# Altium footprint library Package_SON.PcbLib: 112 footprints (part 5 of 7)
Each footprint in its own frame and in the unit in brackets; x right, y up, seen from the top. Pads: shape width x height; smd on the part's side, far side on the other; paste and mask are expansions set on the pad; w line width, h text height; cw(c..) or ccw(c..) is an arc to the next point about the centre after c.
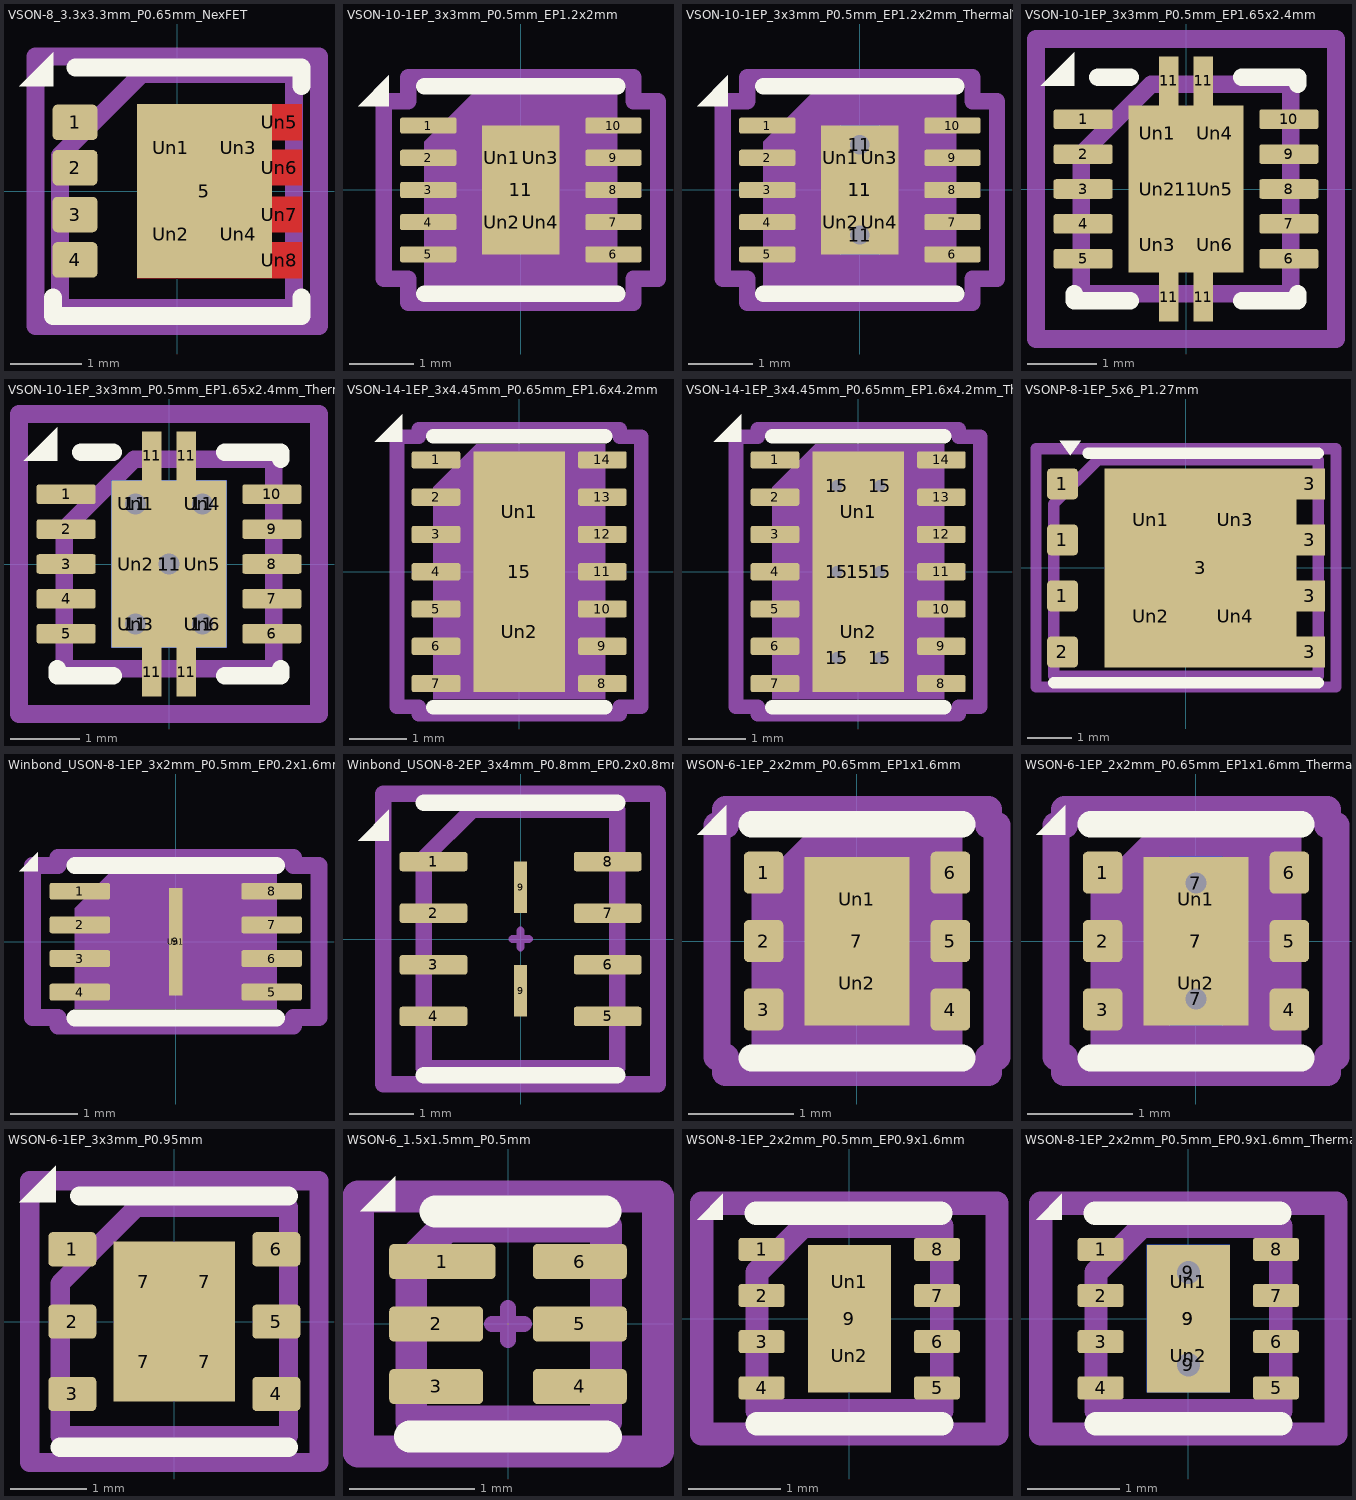
[diagram p4: the footprints below, top view; thin cyan lines are the x and y axes]

## VSON-8_3.3x3.3mm_P0.65mm_NexFET [mm] "VSON-8_3.3x3.3mm_P0.65mm_NexFET"
pads (13):
  rrect25% 0.63x0.5 smd: 1(-1.44,0.97) 2(-1.44,0.33) 3(-1.44,-0.33) 4(-1.44,-0.97)
  rect 1.9x2.45 smd: 5(0.385,0)
  rect 0.57x0.738 on Top Paste: Un1(-0.09,0.61) Un2(-0.09,-0.61) Un3(0.86,0.61) Un4(0.86,-0.61)
  rrect25% 0.63x0.5 on Top Paste: Un5(1.44,0.972) Un6(1.44,0.33) Un7(1.44,-0.33) Un8(1.44,-0.972)
F.Cu:
  region: 1.756,0.72 1.335,0.72 1.335,0.58 1.755,0.58 1.755,0.08 1.335,0.08 1.335,-0.08 1.755,-0.08 1.755,-0.58 1.335,-0.58 1.335,-0.72 1.755,-0.72 1.755,-1.225 -0.565,-1.225 -0.565,1.225 1.756,1.225
F.SilkS:
  region: -1.75,1.48 -2.23,1.48 -1.75,1.96
  lines w0.254: -1.75,-1.5 -1.75,-1.76 1.75,-1.76 1.75,-1.5 ; -1.43,1.74 1.75,1.74 1.75,1.48
F.Mask:
  region: 1.756,0.72 1.335,0.72 1.335,0.58 1.755,0.58 1.755,0.08 1.335,0.08 1.335,-0.08 1.755,-0.08 1.755,-0.58 1.335,-0.58 1.335,-0.72 1.755,-0.72 1.755,-1.225 -0.565,-1.225 -0.565,1.225 1.756,1.225
Top Component Center:
  lines w0.127: -0.127,0 0.127,0 ; 0,-0.127 0,0.127
Top Assembly:
  lines w0.254: -1.65,-1.65 1.65,-1.65 1.65,1.65 -0.5,1.65 -1.65,0.5 -1.65,-1.65
Top Courtyard:
  lines w0.254: -2,-1.9 2,-1.9 2,1.9 -2,1.9 -2,-1.9
Top Designator:
  text ".Designator" at -3.434,-0.345 h1.52
3D body "VSON-8_3.3x3.3mm_P0.65mm_NexFET.step": height 0.97, standoff 0, extent -1.65,-1.64 1.65,1.64

## VSON-10-1EP_3x3mm_P0.5mm_EP1.2x2mm [mm] "VSON-10-1EP_3x3mm_P0.5mm_EP1.2x2mm"
pads (15):
  rrect25% 0.875x0.25 smd: 1(-1.438,1) 2(-1.438,0.5) 3(-1.438,0) 4(-1.438,-0.5) 5(-1.438,-1) 6(1.438,-1) 7(1.438,-0.5) 8(1.438,0) 9(1.438,0.5) 10(1.438,1)
  rect 1.2x2 smd: 11(0,0)
  rrect25% 0.48x0.81 on Top Paste: Un1(-0.3,0.5) Un2(-0.3,-0.5) Un3(0.3,0.5) Un4(0.3,-0.5)
F.SilkS:
  region: -2.05,1.3 -2.53,1.3 -2.05,1.78
  lines w0.254: -1.5,-1.61 1.5,-1.61 ; -1.5,1.61 1.5,1.61
Top Component Center:
  lines w0.127: -0.127,0 0.127,0 ; 0,-0.127 0,0.127
Top Assembly:
  region: 1.5,-1.5 -1.5,-1.5 -1.5,0.75 -0.75,1.5 1.5,1.5
Top Courtyard:
  lines w0.254: -2.13,-1.38 -1.75,-1.38 -1.75,-1.75 1.75,-1.75 1.75,-1.38 2.13,-1.38 2.13,1.38 1.75,1.38 1.75,1.75 -1.75,1.75 -1.75,1.38 -2.13,1.38 -2.13,-1.38
Top Designator:
  text ".Designator" at -3.434,-0.345 h1.52
3D body "VSON-10-1EP_3x3mm_P0.5mm_EP1.2x2mm.step": height 1.02, standoff 0, extent -1.5,-1.49 1.5,1.49

## VSON-10-1EP_3x3mm_P0.5mm_EP1.2x2mm_ThermalVias [mm] "VSON-10-1EP_3x3mm_P0.5mm_EP1.2x2mm_ThermalVias"
pads (18):
  rrect25% 0.875x0.25 smd: 1(-1.438,1) 2(-1.438,0.5) 3(-1.438,0) 4(-1.438,-0.5) 5(-1.438,-1) 6(1.438,-1) 7(1.438,-0.5) 8(1.438,0) 9(1.438,0.5) 10(1.438,1)
  round 0.6 hole 0.3: 11(0,-0.7) 11(0,0.7)
  rect 1.2x2 smd: 11(0,0)
  rect 0.6x2 smd far side: 11(0,0)
  rrect25% 0.52x0.87 on Top Paste: Un1(-0.3,0.5) Un2(-0.3,-0.5) Un3(0.3,0.5) Un4(0.3,-0.5)
F.SilkS:
  region: -2.05,1.3 -2.53,1.3 -2.05,1.78
  lines w0.254: -1.5,-1.61 1.5,-1.61 ; -1.5,1.61 1.5,1.61
Top Component Center:
  lines w0.127: -0.127,0 0.127,0 ; 0,-0.127 0,0.127
Top Assembly:
  region: 1.5,-1.5 -1.5,-1.5 -1.5,0.75 -0.75,1.5 1.5,1.5
Top Courtyard:
  lines w0.254: -2.13,-1.38 -1.75,-1.38 -1.75,-1.75 1.75,-1.75 1.75,-1.38 2.13,-1.38 2.13,1.38 1.75,1.38 1.75,1.75 -1.75,1.75 -1.75,1.38 -2.13,1.38 -2.13,-1.38
Top Designator:
  text ".Designator" at -3.434,-0.345 h1.52
3D body "VSON-10-1EP_3x3mm_P0.5mm_EP1.2x2mm.step": height 1.02, standoff 0, extent -1.5,-1.49 1.5,1.49

## VSON-10-1EP_3x3mm_P0.5mm_EP1.65x2.4mm [mm] "VSON-10-1EP_3x3mm_P0.5mm_EP1.65x2.4mm"
pads (21):
  rrect25% 0.85x0.28 smd: 1(-1.475,1) 2(-1.475,0.5) 3(-1.475,0) 4(-1.475,-0.5) 5(-1.475,-1) 6(1.475,-1) 7(1.475,-0.5) 8(1.475,0) 9(1.475,0.5) 10(1.475,1)
  rect 0.28x0.7 smd: 11(-0.25,-1.55) 11(-0.25,1.55) 11(0.25,-1.55) 11(0.25,1.55)
  rect 1.65x2.4 smd: 11(0,0)
  rect 0.64x0.64 on Top Paste: Un1(-0.413,0.8) Un2(-0.413,0) Un3(-0.413,-0.8) Un4(0.413,0.8) Un5(0.413,0) Un6(0.413,-0.8)
F.SilkS:
  region: -1.6,1.48 -2.08,1.48 -1.6,1.96
  lines w0.254: -1.6,-1.5 -1.6,-1.6 -0.8,-1.6 ; -1.26,1.6 -0.8,1.6 ; 0.8,-1.6 1.6,-1.6 1.6,-1.5 ; 0.8,1.6 1.6,1.6 1.6,1.5
Top Component Center:
  lines w0.127: -0.127,0 0.127,0 ; 0,-0.127 0,0.127
Top Assembly:
  lines w0.254: -1.5,-1.5 1.5,-1.5 1.5,1.5 -0.5,1.5 -1.5,0.5 -1.5,-1.5
Top Courtyard:
  lines w0.254: -2.15,-2.15 2.15,-2.15 2.15,2.15 -2.15,2.15 -2.15,-2.15
Top Designator:
  text ".Designator" at -3.434,-0.345 h1.52
3D body "VSON-10-1EP_3x3mm_P0.5mm_EP1.65x2.4mm.step": height 0.92, standoff 0, extent -1.5,-1.5 1.5,1.5

## VSON-10-1EP_3x3mm_P0.5mm_EP1.65x2.4mm_ThermalVias [mm] "VSON-10-1EP_3x3mm_P0.5mm_EP1.65x2.4mm_ThermalVias"
pads (27):
  rrect25% 0.85x0.28 smd: 1(-1.475,1) 2(-1.475,0.5) 3(-1.475,0) 4(-1.475,-0.5) 5(-1.475,-1) 6(1.475,-1) 7(1.475,-0.5) 8(1.475,0) 9(1.475,0.5) 10(1.475,1)
  round 0.6 hole 0.3: 11(-0.48,-0.86) 11(-0.48,0.86) 11(0,0) 11(0.48,-0.86) 11(0.48,0.86)
  rect 0.28x0.7 smd: 11(-0.25,-1.55) 11(-0.25,1.55) 11(0.25,-1.55) 11(0.25,1.55)
  rect 1.65x2.4 smd: 11(0,0)
  rect 1.65x2.4 smd far side: 11(0,0)
  rect 0.64x0.64 on Top Paste: Un1(-0.48,0.86) Un2(-0.48,0) Un3(-0.48,-0.86) Un4(0.48,0.86) Un5(0.48,0) Un6(0.48,-0.86)
F.SilkS:
  region: -1.6,1.48 -2.08,1.48 -1.6,1.96
  lines w0.254: -1.6,-1.5 -1.6,-1.6 -0.8,-1.6 ; -1.26,1.6 -0.8,1.6 ; 0.8,-1.6 1.6,-1.6 1.6,-1.5 ; 0.8,1.6 1.6,1.6 1.6,1.5
Top Component Center:
  lines w0.127: -0.127,0 0.127,0 ; 0,-0.127 0,0.127
Top Assembly:
  lines w0.254: -1.5,-1.5 1.5,-1.5 1.5,1.5 -0.5,1.5 -1.5,0.5 -1.5,-1.5
Top Courtyard:
  lines w0.254: -2.15,-2.15 2.15,-2.15 2.15,2.15 -2.15,2.15 -2.15,-2.15
Top Designator:
  text ".Designator" at -3.434,-0.345 h1.52
3D body "VSON-10-1EP_3x3mm_P0.5mm_EP1.65x2.4mm.step": height 0.92, standoff 0, extent -1.5,-1.5 1.5,1.5

## VSON-14-1EP_3x4.45mm_P0.65mm_EP1.6x4.2mm [mm] "VSON-14-1EP_3x4.45mm_P0.65mm_EP1.6x4.2mm"
pads (17):
  rrect25% 0.85x0.3 smd: 1(-1.45,1.95) 2(-1.45,1.3) 3(-1.45,0.65) 4(-1.45,0) 5(-1.45,-0.65) 6(-1.45,-1.3) 7(-1.45,-1.95) 8(1.45,-1.95) 9(1.45,-1.3) 10(1.45,-0.65) 11(1.45,0) 12(1.45,0.65) 13(1.45,1.3) 14(1.45,1.95)
  rect 1.6x4.2 smd: 15(0,0)
  rrect19% 1.29x1.69 on Top Paste: Un1(0,1.05) Un2(0,-1.05)
F.SilkS:
  region: -2.04,2.27 -2.52,2.27 -2.04,2.75
  lines w0.254: -1.5,-2.36 1.5,-2.36 ; -1.5,2.36 1.5,2.36
Top Component Center:
  lines w0.127: -0.127,0 0.127,0 ; 0,-0.127 0,0.127
Top Assembly:
  region: 1.5,-2.225 -1.5,-2.225 -1.5,1.475 -0.75,2.225 1.5,2.225
Top Courtyard:
  lines w0.254: -2.13,-2.35 -1.75,-2.35 -1.75,-2.48 1.75,-2.48 1.75,-2.35 2.13,-2.35 2.13,2.35 1.75,2.35 1.75,2.48 -1.75,2.48 -1.75,2.35 -2.13,2.35 -2.13,-2.35
Top Designator:
  text ".Designator" at -3.434,-0.345 h1.52

## VSON-14-1EP_3x4.45mm_P0.65mm_EP1.6x4.2mm_ThermalVias [mm] "VSON-14-1EP_3x4.45mm_P0.65mm_EP1.6x4.2mm_ThermalVias"
pads (24):
  rrect25% 0.85x0.3 smd: 1(-1.45,1.95) 2(-1.45,1.3) 3(-1.45,0.65) 4(-1.45,0) 5(-1.45,-0.65) 6(-1.45,-1.3) 7(-1.45,-1.95) 8(1.45,-1.95) 9(1.45,-1.3) 10(1.45,-0.65) 11(1.45,0) 12(1.45,0.65) 13(1.45,1.3) 14(1.45,1.95)
  round 0.5 hole 0.2: 15(-0.375,-1.5) 15(-0.375,0) 15(-0.375,1.5) 15(0.375,-1.5) 15(0.375,0) 15(0.375,1.5)
  rect 1.6x4.2 smd: 15(0,0)
  rect 1.25x3.5 smd far side: 15(0,0)
  rrect19% 1.29x1.69 on Top Paste: Un1(0,1.05) Un2(0,-1.05)
F.SilkS:
  region: -2.04,2.27 -2.52,2.27 -2.04,2.75
  lines w0.254: -1.5,-2.36 1.5,-2.36 ; -1.5,2.36 1.5,2.36
Top Component Center:
  lines w0.127: -0.127,0 0.127,0 ; 0,-0.127 0,0.127
Top Assembly:
  region: 1.5,-2.225 -1.5,-2.225 -1.5,1.475 -0.75,2.225 1.5,2.225
Top Courtyard:
  lines w0.254: -2.13,-2.35 -1.75,-2.35 -1.75,-2.48 1.75,-2.48 1.75,-2.35 2.13,-2.35 2.13,2.35 1.75,2.35 1.75,2.48 -1.75,2.48 -1.75,2.35 -2.13,2.35 -2.13,-2.35
Top Designator:
  text ".Designator" at -3.434,-0.345 h1.52

## VSONP-8-1EP_5x6_P1.27mm [mm] "VSONP-8-1EP_5x6_P1.27mm"
pads (13):
  rrect25% 0.7x0.7 smd: 1(-2.8,-0.635) 1(-2.8,0.635) 1(-2.8,1.905) 2(-2.8,-1.905)
  rect 4.35x4.51 smd: 3(0.33,0)
  rect 0.7x0.7 smd: 3(2.8,-1.905) 3(2.8,-0.635) 3(2.8,0.635) 3(2.8,1.905)
  rect 1.235x1.57 on Top Paste: Un1(-0.797,1.095) Un2(-0.797,-1.095)
  rect 1.585x1.57 on Top Paste: Un3(1.112,1.095) Un4(1.112,-1.095)
F.SilkS:
  region: -2.624,2.549 -2.864,2.879 -2.384,2.879
  lines w0.254: -3,-2.6 3,-2.6 ; -2.22,2.6 3,2.6
Top Component Center:
  lines w0.127: -0.127,0 0.127,0 ; 0,-0.127 0,0.127
Top Assembly:
  lines w0.254: -3,-2.45 3,-2.45 3,2.45 -2,2.45 -3,1.45 -3,-2.45
Top Courtyard:
  lines w0.254: -3.4,-2.7 3.4,-2.7 3.4,2.7 -3.4,2.7 -3.4,-2.7
Top Designator:
  text ".Designator" at -3.434,-0.345 h1.52

## Winbond_USON-8-1EP_3x2mm_P0.5mm_EP0.2x1.6mm [mm] "Winbond_USON-8-1EP_3x2mm_P0.5mm_EP0.2x1.6mm"
pads (10):
  rrect25% 0.9x0.25 smd: 1(-1.425,0.75) 2(-1.425,0.25) 3(-1.425,-0.25) 4(-1.425,-0.75) 5(1.425,-0.75) 6(1.425,-0.25) 7(1.425,0.25) 8(1.425,0.75)
  rect 0.2x1.6 smd: 9(0,0)
  rrect25% 0.16x1.29 on Top Paste: Un1(0,0)
F.SilkS:
  region: -2.05,1.05 -2.33,1.05 -2.05,1.33
  lines w0.254: -1.5,-1.135 1.5,-1.135 ; -1.5,1.135 1.5,1.135
Top Component Center:
  lines w0.127: -0.127,0 0.127,0 ; 0,-0.127 0,0.127
Top Assembly:
  region: 1.5,-1 -1.5,-1 -1.5,0.5 -1,1 1.5,1
Top Courtyard:
  lines w0.254: -2.13,-1.13 -1.75,-1.13 -1.75,-1.25 1.75,-1.25 1.75,-1.13 2.13,-1.13 2.13,1.13 1.75,1.13 1.75,1.25 -1.75,1.25 -1.75,1.13 -2.13,1.13 -2.13,-1.13
Top Designator:
  text ".Designator" at -3.434,-0.345 h1.52
3D body "Winbond_USON-8-1EP_3x2mm_P0.5mm_EP0.2x1.6mm.step": height 0.55, standoff 0, extent -1.5,-0.99 1.5,0.99

## Winbond_USON-8-2EP_3x4mm_P0.8mm_EP0.2x0.8mm [mm] "Winbond_USON-8-2EP_3x4mm_P0.8mm_EP0.2x0.8mm"
pads (10):
  rrect25% 1.05x0.3 smd: 1(-1.35,1.2) 2(-1.35,0.4) 3(-1.35,-0.4) 4(-1.35,-1.2) 5(1.35,-1.2) 6(1.35,-0.4) 7(1.35,0.4) 8(1.35,1.2)
  rrect2% 0.2x0.8 smd: 9(0,-0.8) 9(0,0.8)
F.SilkS:
  region: -2.04,1.52 -2.52,1.52 -2.04,2
  lines w0.254: -1.5,-2.11 1.5,-2.11 ; -1.5,2.11 1.5,2.11
Top Component Center:
  lines w0.127: -0.127,0 0.127,0 ; 0,-0.127 0,0.127
Top Assembly:
  lines w0.254: -1.5,-2 1.5,-2 1.5,2 -0.75,2 -1.5,1.25 -1.5,-2
Top Courtyard:
  lines w0.254: -2.13,-2.25 2.13,-2.25 2.13,2.25 -2.13,2.25 -2.13,-2.25
Top Designator:
  text ".Designator" at -3.434,-0.345 h1.52

## WSON-6-1EP_2x2mm_P0.65mm_EP1x1.6mm [mm] "WSON-6-1EP_2x2mm_P0.65mm_EP1x1.6mm"
pads (9):
  rrect25% 0.375x0.4 smd: 1(-0.887,0.65) 2(-0.887,0) 3(-0.887,-0.65) 4(0.887,-0.65) 5(0.887,0) 6(0.887,0.65)
  rect 1x1.6 smd: 7(0,0)
  rrect25% 0.81x0.64 on Top Paste: Un1(0,0.4) Un2(0,-0.4)
F.SilkS:
  region: -1.24,1.01 -1.52,1.01 -1.24,1.29
  lines w0.254: -1,-1.11 1,-1.11 ; -1,1.11 1,1.11
Top Component Center:
  lines w0.127: -0.127,0 0.127,0 ; 0,-0.127 0,0.127
Top Assembly:
  region: 1,-1 -1,-1 -1,0.5 -0.5,1 1,1
Top Courtyard:
  lines w0.254: -1.33,-1.1 -1.25,-1.1 -1.25,-1.25 1.25,-1.25 1.25,-1.1 1.33,-1.1 1.33,1.1 1.25,1.1 1.25,1.25 -1.25,1.25 -1.25,1.1 -1.33,1.1 -1.33,-1.1
Top Designator:
  text ".Designator" at -2.252,-0.226 h1
3D body "WSON-6-1EP_2x2mm_P0.65mm_EP1x1.6mm.step": height 0.82, standoff 0, extent -1,-0.99 1,0.99

## WSON-6-1EP_2x2mm_P0.65mm_EP1x1.6mm_ThermalVias [mm] "WSON-6-1EP_2x2mm_P0.65mm_EP1x1.6mm_ThermalVias"
pads (12):
  rrect25% 0.375x0.4 smd: 1(-0.887,0.65) 2(-0.887,0) 3(-0.887,-0.65) 4(0.887,-0.65) 5(0.887,0) 6(0.887,0.65)
  round 0.5 hole 0.2: 7(0,-0.55) 7(0,0.55)
  rect 1x1.6 smd: 7(0,0)
  rect 0.5x1.6 smd far side: 7(0,0)
  rrect25% 0.87x0.69 on Top Paste: Un1(0,0.4) Un2(0,-0.4)
F.SilkS:
  region: -1.24,1.01 -1.52,1.01 -1.24,1.29
  lines w0.254: -1,-1.11 1,-1.11 ; -1,1.11 1,1.11
Top Component Center:
  lines w0.127: -0.127,0 0.127,0 ; 0,-0.127 0,0.127
Top Assembly:
  region: 1,-1 -1,-1 -1,0.5 -0.5,1 1,1
Top Courtyard:
  lines w0.254: -1.33,-1.1 -1.33,1.1 -1.25,1.1 -1.25,1.25 1.25,1.25 1.25,1.1 1.33,1.1 1.33,-1.1 1.25,-1.1 1.25,-1.25 -1.25,-1.25 -1.25,-1.1 -1.33,-1.1
Top Designator:
  text ".Designator" at -2.252,-0.226 h1
3D body "WSON-6-1EP_2x2mm_P0.65mm_EP1x1.6mm.step": height 0.82, standoff 0, extent -1,-0.99 1,0.99

## WSON-6-1EP_3x3mm_P0.95mm [mm] "WSON-6-1EP_3x3mm_P0.95mm"
pads (10):
  rrect25% 0.63x0.45 smd: 1(-1.34,0.95) 2(-1.34,0) 3(-1.34,-0.95) 4(1.34,-0.95) 5(1.34,0) 6(1.34,0.95)
  rect 0.8x1.05 smd: 7(-0.4,-0.525) 7(-0.4,0.525) 7(0.4,-0.525) 7(0.4,0.525)
F.SilkS:
  region: -1.56,1.57 -2.04,1.57 -1.56,2.05
  lines w0.254: -1.5,-1.65 1.5,-1.65 ; -1.24,1.65 1.5,1.65
Top Component Center:
  lines w0.127: -0.127,0 0.127,0 ; 0,-0.127 0,0.127
Top Assembly:
  lines w0.254: -1.5,-1.5 1.5,-1.5 1.5,1.5 -0.5,1.5 -1.5,0.5 -1.5,-1.5
Top Courtyard:
  lines w0.254: -1.9,-1.85 1.9,-1.85 1.9,1.85 -1.9,1.85 -1.9,-1.85
Top Designator:
  text ".Designator" at -2.252,-0.226 h1

## WSON-6_1.5x1.5mm_P0.5mm [mm] "WSON-6_1.5x1.5mm_P0.5mm"
pads (6):
  rrect25% 0.85x0.28 smd: 1(-0.525,0.5)
  rrect25% 0.75x0.28 smd: 2(-0.575,0) 3(-0.575,-0.5) 4(0.575,-0.5) 5(0.575,0) 6(0.575,0.5)
F.SilkS:
  region: -0.9,0.9 -1.18,0.9 -0.9,1.18
  lines w0.254: -0.785,-0.9 0.785,-0.9 ; -0.58,0.9 0.78,0.9
Top Component Center:
  lines w0.127: -0.127,0 0.127,0 ; 0,-0.127 0,0.127
Top Assembly:
  lines w0.254: -0.775,-0.78 0.785,-0.78 0.785,0.78 -0.495,0.78 -0.775,0.5 -0.775,-0.78
Top Courtyard:
  lines w0.254: -1.2,-1.02 1.2,-1.02 1.2,1.02 -1.2,1.02 -1.2,-1.02
Top Designator:
  text ".Designator" at -2.252,-0.226 h1
3D body "WSON-6_1.5x1.5mm_P0.5mm.step": height 0.77, standoff 0, extent -0.75,-0.74 0.75,0.74

## WSON-8-1EP_2x2mm_P0.5mm_EP0.9x1.6mm [mm] "WSON-8-1EP_2x2mm_P0.5mm_EP0.9x1.6mm"
pads (11):
  rrect25% 0.5x0.25 smd: 1(-0.95,0.75) 2(-0.95,0.25) 3(-0.95,-0.25) 4(-0.95,-0.75) 5(0.95,-0.75) 6(0.95,-0.25) 7(0.95,0.25) 8(0.95,0.75)
  rect 0.9x1.6 smd: 9(0,0)
  rect 0.75x0.65 on Top Paste: Un1(0,0.4) Un2(0,-0.4)
F.SilkS:
  region: -1.37,1.07 -1.65,1.07 -1.37,1.35
  lines w0.254: -1.01,1.14 0.99,1.14 ; -1,-1.14 1,-1.14
Top Component Center:
  lines w0.127: -0.127,0 0.127,0 ; 0,-0.127 0,0.127
Top Assembly:
  lines w0.254: -1,-1 1,-1 1,1 -0.5,1 -1,0.5 -1,-1
Top Courtyard:
  lines w0.254: -1.6,-1.25 1.6,-1.25 1.6,1.25 -1.6,1.25 -1.6,-1.25
Top Designator:
  text ".Designator" at -2.252,-0.226 h1
3D body "WSON-8-1EP_2x2mm_P0.5mm_EP0.9x1.6mm.step": height 0.82, standoff 0, extent -1,-0.99 1,0.99

## WSON-8-1EP_2x2mm_P0.5mm_EP0.9x1.6mm_ThermalVias [mm] "WSON-8-1EP_2x2mm_P0.5mm_EP0.9x1.6mm_ThermalVias"
pads (14):
  rrect25% 0.5x0.25 smd: 1(-0.95,0.75) 2(-0.95,0.25) 3(-0.95,-0.25) 4(-0.95,-0.75) 5(0.95,-0.75) 6(0.95,-0.25) 7(0.95,0.25) 8(0.95,0.75)
  round 0.6 hole 0.25: 9(0,-0.5) 9(0,0.5)
  rect 0.9x1.6 smd: 9(0,0)
  rect 0.9x1.6 smd far side: 9(0,0)
  rect 0.75x0.65 on Top Paste: Un1(0,0.4) Un2(0,-0.4)
F.SilkS:
  region: -1.37,1.07 -1.65,1.07 -1.37,1.35
  lines w0.254: -1.01,1.14 0.99,1.14 ; -1,-1.14 1,-1.14
Top Component Center:
  lines w0.127: -0.127,0 0.127,0 ; 0,-0.127 0,0.127
Top Assembly:
  lines w0.254: -1,-1 1,-1 1,1 -0.5,1 -1,0.5 -1,-1
Top Courtyard:
  lines w0.254: -1.6,-1.25 1.6,-1.25 1.6,1.25 -1.6,1.25 -1.6,-1.25
Top Designator:
  text ".Designator" at -2.252,-0.226 h1
3D body "WSON-8-1EP_2x2mm_P0.5mm_EP0.9x1.6mm.step": height 0.82, standoff 0, extent -1,-0.99 1,0.99